# Altium footprint library PcbLib1.PcbLib: 30 footprints (part 1 of 2)
Each footprint in its own frame and in the unit in brackets; x right, y up, seen from the top. Pads: shape width x height; smd on the part's side, far side on the other; paste and mask are expansions set on the pad; w line width, h text height; cw(c..) or ccw(c..) is an arc to the next point about the centre after c.
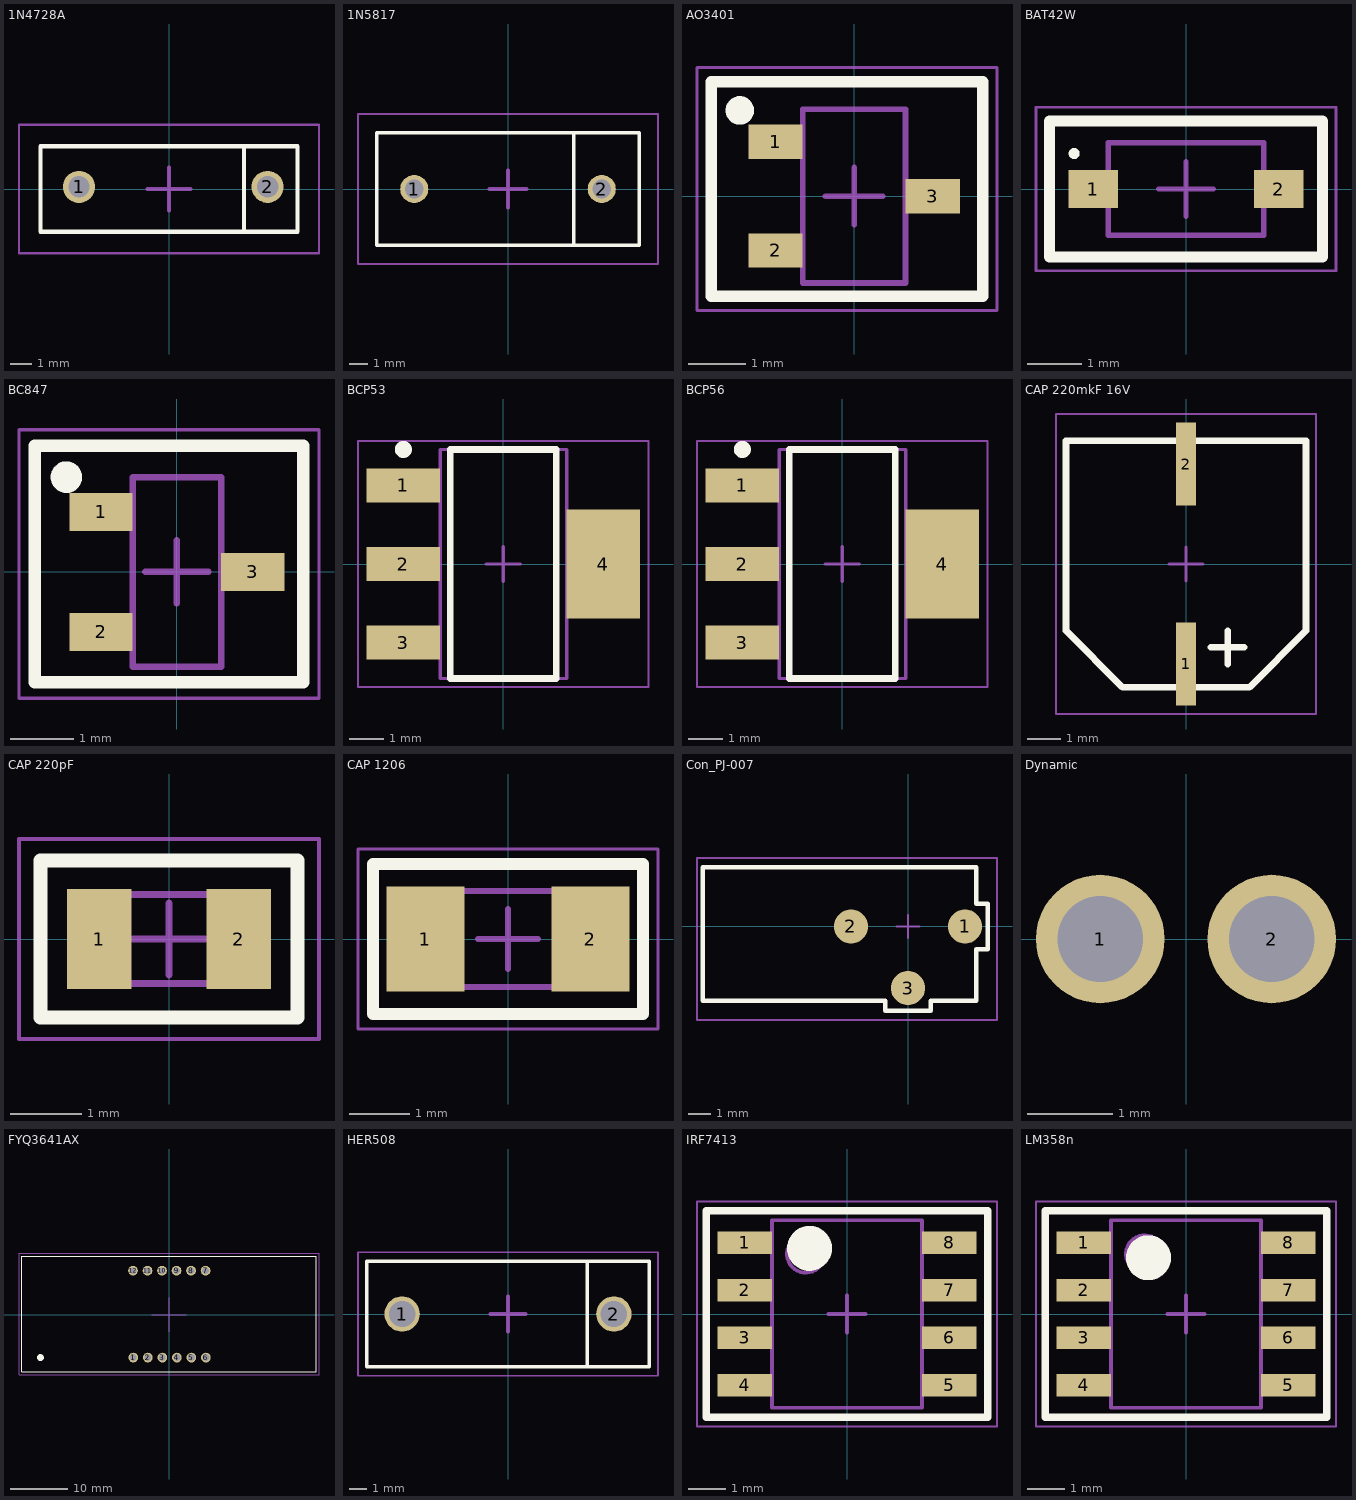
[diagram p0: the footprints below, top view; thin cyan lines are the x and y axes]

## 1N4728A [mm]
pads (2):
  round 1.5 hole 1: 1(-4.2,0.1) 2(4.6,0.1)
Top Overlay:
  lines w0.2: 3.5,-2 3.5,2 ; -6,-2 -6,2 6,2 6,-2 -6,-2
Border:
  lines w0.1: -7,-3 -7,3 7,3 7,-3 -7,-3
  lines w0.2: -1,0 1,0 ; 0,-1 0,1
3D body "1N4728A.STEP": height 3.2, standoff -0.5, extent -4.6,-1.125 5,1.275

## 1N5817 [mm]
pads (2):
  round 1.5 hole 1: 1(-5,0) 2(5,0)
Top Overlay:
  lines w0.2: 3.5,-3 3.5,3 ; -7,-3 -7,3 7,3 7,-3 -7,-3
Border:
  lines w0.1: -8,-4 8,-4 8,4 -8,4 -8,-4
  lines w0.2: -1,0 1,0 ; 0,-1 0,1
3D body "Diod.STEP": height 3, standoff -1, extent -5.4,-1.5 5.4,1.5

## AO3401 [mm]
height 1.1
pads (3):
  rect 0.95x0.6 smd: 1(-1.375,0.95) 2(-1.375,-0.95) 3(1.375,0)
Top Overlay:
  circle w0.25: c-2,1.5 r0.125
  lines w0.2: -2.5,-1.75 -2.5,2 2.25,2 2.25,-1.75 -2.5,-1.75
3D model:
  lines w0.1: -0.9,-1.52 0.9,-1.52 0.9,1.52 -0.9,1.52 -0.9,-1.52
Border:
  lines w0.05: -2.75,-2 2.5,-2 2.5,2.25 -2.75,2.25 -2.75,-2
  lines w0.1: -0.5,0 0.5,0 ; 0,-0.5 0,0.5
3D body "AO3401_V2.step": height 1.1, standoff 0.01, extent -1.393,-1.52 1.393,1.52

## BAT42W [mm] "SODFL, 2-Leads, Body 1,55x3,70mm, IPC Medium Density"
height 1.35
pads (2):
  rect 0.9x0.7 smd: 1(-1.7,0) 2(1.7,0)
Top Overlay:
  circle w0.1: c-2.05,0.65 r0.05
  lines w0.2: -2.5,-1.25 2.5,-1.25 2.5,1.25 -2.5,1.25 -2.5,-1.25
3D model:
  lines w0.1: -1.425,-0.85 -1.425,0.85 1.425,0.85 1.425,-0.85 -1.425,-0.85
Border:
  lines w0.05: -2.75,-1.5 -2.75,1.5 2.75,1.5 2.75,-1.5 -2.75,-1.5
  lines w0.1: -0.5,0 0.5,0 ; 0,-0.5 0,0.5
3D body "BAT42W.STEP": height 1.25, standoff 0, extent -1.925,-0.85 1.925,0.85

## BC847 [mm] "SOT23, 3-Leads, Body 2,90x2,45mm, Pitch 0,95mm, IPC Medium Density"
height 1.1
pads (3):
  rect 1x0.6 smd: 1(-1.2,0.95) 2(-1.2,-0.95) 3(1.2,0)
Top Overlay:
  circle w0.25: c-1.75,1.5 r0.125
  lines w0.2: -2.25,-1.75 -2.25,2 2,2 2,-1.75 -2.25,-1.75
3D model:
  lines w0.1: -0.7,-1.5 0.7,-1.5 0.7,1.5 -0.7,1.5 -0.7,-1.5
Border:
  lines w0.05: -2.5,-2 2.25,-2 2.25,2.25 -2.5,2.25 -2.5,-2
  lines w0.1: -0.5,0 0.5,0 ; 0,-0.5 0,0.5
3D body "BC847.step": height 1.1, standoff 0, extent -1.3,-1.5 1.3,1.5

## BCP53 [mm]
height 1.8
pads (4):
  rect 2.15x1 smd: 1(-2.925,2.3) 2(-2.925,0) 3(-2.925,-2.3)
  rect 2.15x3.2 smd: 4(2.925,0)
Top Overlay:
  circle w0.25: c-2.925,3.35 r0.125
  lines w0.2: -1.55,-3.35 1.55,-3.35 1.55,3.35 -1.55,3.35 -1.55,-3.35
3D model:
  lines w0.1: -1.85,-3.35 1.85,-3.35 1.85,3.35 -1.85,3.35 -1.85,-3.35
Border:
  lines w0.05: -4.25,-3.6 4.25,-3.6 4.25,3.6 -4.25,3.6 -4.25,-3.6
  lines w0.1: -0.5,0 0.5,0 ; 0,-0.5 0,0.5
3D body "BCP53.step": height 1.8, standoff 0, extent -3.5,-3.35 3.5,3.35

## BCP56 [mm]
height 1.8
pads (4):
  rect 2.15x1 smd: 1(-2.925,2.3) 2(-2.925,0) 3(-2.925,-2.3)
  rect 2.15x3.2 smd: 4(2.925,0)
Top Overlay:
  circle w0.25: c-2.925,3.35 r0.125
  lines w0.2: -1.55,-3.35 1.55,-3.35 1.55,3.35 -1.55,3.35 -1.55,-3.35
3D model:
  lines w0.1: -1.85,-3.35 1.85,-3.35 1.85,3.35 -1.85,3.35 -1.85,-3.35
Border:
  lines w0.05: -4.25,-3.6 4.25,-3.6 4.25,3.6 -4.25,3.6 -4.25,-3.6
  lines w0.1: -0.5,0 0.5,0 ; 0,-0.5 0,0.5
3D body "BCP56.step": height 1.8, standoff 0, extent -3.5,-3.35 3.5,3.35

## CAP 220mkF 16V [mm]
height 10.5
pads (2):
  rect 0.6x2.5 smd: 1(0,-3) 2(0,3)
Top Overlay:
  lines w0.2: 0.75,-2.5 1.75,-2.5 ; 1.25,-3 1.25,-2 ; -3.6,-2 -3.6,3.7 3.6,3.7 3.6,-2 1.9,-3.7 -1.9,-3.7 -3.6,-2
Border:
  lines w0.05: -3.9,-4.5 -3.9,4.5 3.9,4.5 3.9,-4.5 -3.9,-4.5
  lines w0.1: -0.5,0 0.5,0 ; 0,-0.5 0,0.5
3D body "Capacitor.STEP": height 6, standoff 0, extent -3.3,-3.4 3.3,3.4

## CAP 220pF [mm] "Chip Capacitor, 2-Leads, Body 2,00x1,25mm, IPC Medium Density"
height 1
pads (2):
  rect 0.9x1.4 smd: 1(-0.975,0) 2(0.975,0)
Top Overlay:
  lines w0.2: -1.8,-1.1 -1.8,1.1 1.8,1.1 1.8,-1.1 -1.8,-1.1
3D model:
  lines w0.1: -1,-0.625 1,-0.625 1,0.625 -1,0.625 -1,-0.625
Border:
  lines w0.05: -2.1,-1.4 2.1,-1.4 2.1,1.4 -2.1,1.4 -2.1,-1.4
  lines w0.1: -0.5,0 0.5,0 ; 0,-0.5 0,0.5
3D body "CAP 220pF.step": height 1, standoff 0, extent -1,-0.625 1,0.625

## CAP 1206 [mm] "Chip Capacitor, 2-Leads, Body 3,20x1,60mm, IPC Medium Density"
height 1.5
pads (2):
  rect 1.3x1.75 smd: 1(-1.375,0) 2(1.375,0)
Top Overlay:
  lines w0.2: -2.25,-1.25 -2.25,1.25 2.25,1.25 2.25,-1.25 -2.25,-1.25
3D model:
  lines w0.1: -1.6,-0.8 1.6,-0.8 1.6,0.8 -1.6,0.8 -1.6,-0.8
Border:
  lines w0.05: -2.5,-1.5 2.5,-1.5 2.5,1.5 -2.5,1.5 -2.5,-1.5
  lines w0.1: -0.5,0 0.5,0 ; 0,-0.5 0,0.5
3D body "CAP 1206.step": height 1.5, standoff 0, extent -1.6,-0.8 1.6,0.8

## Con_PJ-007 [mm]
pads (3):
  round 1.5 smd: 1(2.5,0) 2(-2.5,0) 3(0,-2.7)
Top Overlay:
  lines w0.2: -9,-3.25 -9,2.6 3,2.6 3,1 3.5,1 3.5,-1 3,-1 3,-3.25 1,-3.25 1,-3.7 -1,-3.7 -1,-3.25 -9,-3.25
Border:
  lines w0.1: -0.5,0 0.5,0 ; 0,-0.5 0,0.5 ; -9.25,-4.1 -9.25,3 3.9,3 3.9,-4.1 -9.25,-4.1
3D body "CUI_PJ-007.step": height 7.5, standoff 0.1, extent -8.725,-3 2.725,2.35

## Dynamic [mm]
pads (2):
  round 1.5 hole 1: 1(-1,0) 2(1,0)

## FYQ3641AX [mm]
pads (12):
  round 1.7 hole 1.2: 1(-6.25,-7.5) 2(-3.71,-7.5) 3(-1.17,-7.5) 4(1.37,-7.5) 5(3.91,-7.5) 6(6.45,-7.5) 7(6.4,7.7) 8(3.86,7.7) 9(1.32,7.7) 10(-1.22,7.7) 11(-3.76,7.7) 12(-6.3,7.7)
Top Overlay:
  circle w0.6: c-22.5,-7.5 r0.3
  lines w0.2: -25.75,-10 25.75,-10 25.75,10.25 -25.75,10.25 -25.75,-10
Border:
  lines w0.1: -3,0 3,0 ; 0,-3 0,3 ; -26.25,-10.5 -26.25,10.75 26.25,10.75 26.25,-10.5 -26.25,-10.5
3D body "Indicator.STEP": height 8.3, standoff -4, extent -25.05,-9.5 25.25,9.5

## HER508 [mm]
pads (2):
  round 2 hole 1.5: 1(-6,0) 2(6,0)
Top Overlay:
  lines w0.2: 4.5,-3 4.5,3 ; -8,-3 8,-3 8,3 -8,3 -8,-3
Border:
  lines w0.1: -8.5,-3.5 8.5,-3.5 8.5,3.5 -8.5,3.5 -8.5,-3.5
  lines w0.2: -1,0 1,0 ; 0,-1 0,1
3D body "HER508.STEP": height 5, standoff -0.5, extent -6.615,-2.5 6.615,2.5

## IRF7413 [mm] "SOIC, 8-Leads, Body 4,90x3,90mm, Pitch 1,27mm, IPC Medium Density"
height 1.55
pads (8):
  rect 1.45x0.6 smd: 1(-2.725,1.905) 2(-2.725,0.635) 3(-2.725,-0.635) 4(-2.725,-1.905) 5(2.725,-1.905) 6(2.725,-0.635) 7(2.725,0.635) 8(2.725,1.905)
Top Overlay:
  circle w0.6: c-1,1.75 r0.3
  lines w0.2: -3.75,-2.75 3.75,-2.75 3.75,2.75 -3.75,2.75 -3.75,-2.75
3D model:
  circle w0.1: c-1.1,1.6 r0.5
  lines w0.1: -2,-2.5 2,-2.5 2,2.5 -2,2.5 -2,-2.5
Border:
  lines w0.05: -4,-3 4,-3 4,3 -4,3 -4,-3
  lines w0.1: -0.5,0 0.5,0 ; 0,-0.5 0,0.5
3D body "IRF7413.step": height 1.55, standoff 0, extent -3,-2.5 3,2.5

## LM358n [mm] "SOIC, 8-Leads, Body 4,91x3,90mm, Pitch 1,27mm, IPC Medium Density"
height 1.75
pads (8):
  rect 1.45x0.6 smd: 1(-2.725,1.905) 2(-2.725,0.635) 3(-2.725,-0.635) 4(-2.725,-1.905) 5(2.725,-1.905) 6(2.725,-0.635) 7(2.725,0.635) 8(2.725,1.905)
Top Overlay:
  circle w0.6: c-1,1.5 r0.3
  lines w0.2: -3.75,-2.75 3.75,-2.75 3.75,2.75 -3.75,2.75 -3.75,-2.75
3D model:
  circle w0.1: c-1.1,1.6 r0.5
  lines w0.1: -2,-2.5 2,-2.5 2,2.5 -2,2.5 -2,-2.5
Border:
  lines w0.05: -4,-3 4,-3 4,3 -4,3 -4,-3
  lines w0.1: -0.5,0 0.5,0 ; 0,-0.5 0,0.5
3D body "LM358n.step": height 1.75, standoff 0, extent -2.997,-2.5 2.997,2.5